# Altium schematic symbol library IC_INA139.Schlib: 1 symbol
Pins are listed as number, name and electrical type; pins without a type are passive.

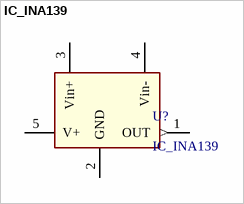
[diagram p0: symbol IC_INA139]

## IC_INA139
designator U?
High side shunt current monitor
pins: 1 OUT (out), 2 GND (power), 3 Vin+, 4 Vin-, 5 V+